# EAGLE library part LM25085 (library ICs)
PFET Controller, Constant On-Time, 4.5V to 42V, 1 Output, Buck, 1MHz
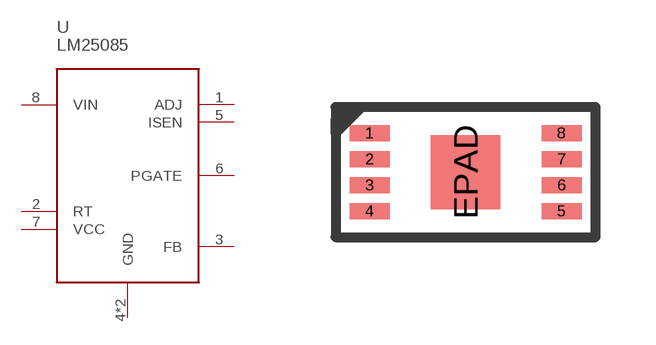
[diagram p152: symbol with the pads of HVSSOP8; footprint HVSSOP8]

Designator prefix U

## LM25085MY (FARNELL: 2492153; PRICE_PER: 1.66; VALUE: LM25085)  [HVSSOP8]
1  ADJ
2  RT
3  FB
4  GND
5  ISEN
6  PGATE
7  VCC
8  VIN
EPAD  GND

## Footprint HVSSOP8 (pad centres in mm)
smd 1 x 0.4: 1 -2.4,0.975; 2 -2.4,0.325; 3 -2.4,-0.325; 4 -2.4,-0.975; 5 2.4,-0.975; 6 2.4,-0.325; 7 2.4,0.325; 8 2.4,0.975
smd 1.73 x 1.85: EPAD 0,0